# EAGLE library part CDCE913 (library My_TI)
CDCE913 Programmable 1-PLL VCXO Clock Synthesizer With 1.8-V, 2.5-V, and 3.3-V Outputs • 1.8-V Device Power Supply • Separate Output Supply Pins – CDCE913: 3.3 V and 2.5 V – CDCEL913: 1.8 V Datasheet <http://www.ti.com/lit/ds/symlink/cdce913.pdf>
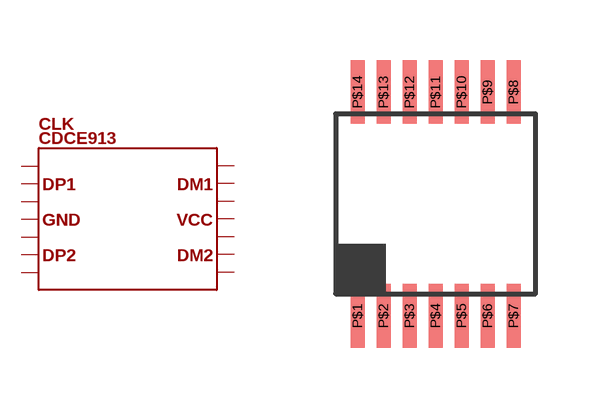
[diagram p64: symbol with the pads of TSSOP-14; footprint TSSOP-14]

Designator prefix CLK

## CDCE913  [TSSOP-14]
P$1  P$1
P$2  P$2
P$3  P$3
P$4  P$4
P$5  P$5
P$6  P$6
P$7  P$7
P$8  P$8
P$9  P$9
P$10  P$10
P$11  P$11
P$12  P$12
P$13  P$13
P$14  P$14

## Footprint TSSOP-14 (pad centres in mm)
smd 0.35 x 1.6: P$1 -1.95,-2.8; P$2 -1.3,-2.8; P$3 -0.65,-2.8; P$4 0,-2.8; P$5 0.65,-2.8; P$6 1.3,-2.8; P$7 1.95,-2.8; P$8 1.95,2.8; P$9 1.3,2.8; P$10 0.65,2.8; P$11 0,2.8; P$12 -0.65,2.8; P$13 -1.3,2.8; P$14 -1.95,2.8